# EAGLE library part 2CH_ANALOG_MUX (library DSX_Library)
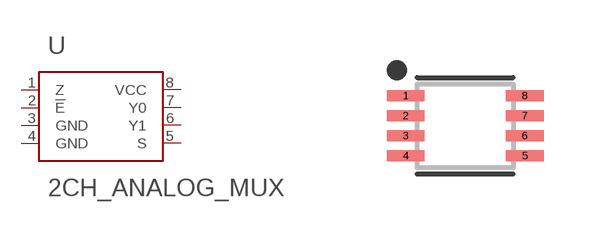
[diagram p7: symbol with the pads of SOP50P310X100-8N; footprint SOP50P310X100-8N]

Designator prefix U

## 2CH_ANALOG_MUX2CH-MUX-SSOP8  [SOP50P310X100-8N]
1  Z  out
2  !E  in
3  GND  pwr
4  GND  pwr
5  S  in
6  Y1  in
7  Y0  in
8  VCC  pwr

## Footprint SOP50P310X100-8N (pad centres in mm)
8-SOP, 0.50 mm pitch, 3.10 mm span, 2.00 X 2.30 X 1.00 mm body 8-pin SOP package with 0.50 mm pitch, 3.10 mm span with body size 2.00 X 2.30 X 1.00 mm
smd 0.949 x 0.28: 1 -1.49,0.75; 2 -1.49,0.25; 3 -1.49,-0.25; 4 -1.49,-0.75; 5 1.49,-0.75; 6 1.49,-0.25; 7 1.49,0.25; 8 1.49,0.75